# EAGLE library part TPS62177 (library dawidkulpa_dev)
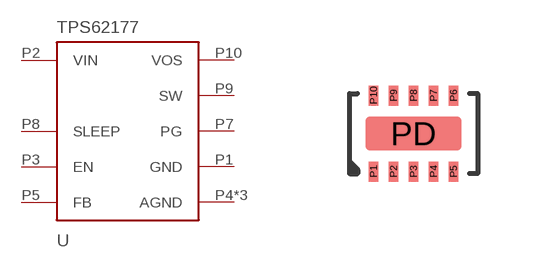
[diagram p28: symbol with the pads of WSON10; footprint WSON10]

Designator prefix -

## TPS62177  [WSON10]
P1  GND
P2  VIN
P3  EN
P4  AGND
P5  FB
P6  AGND
P7  PG
P8  SLEEP
P9  SW
P10  VOS
PD  AGND

## Footprint WSON10 (pad centres in mm)
smd 0.25 x 0.5: P1 -1,-0.95; P2 -0.5,-0.95; P3 0,-0.95; P4 0.5,-0.95; P5 1,-0.95; P6 1,0.95; P7 0.5,0.95; P8 0,0.95; P9 -0.5,0.95; P10 -1,0.95
smd 2.4 x 0.84: PD 0,0